# Altium integrated library XC6222B331MR-G.IntLib: 2 symbols
Pins are listed as number, name and electrical type; pins without a type are passive.

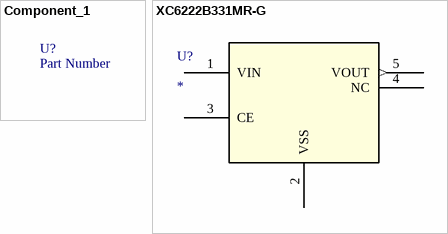
[diagram p0: symbols Component_1 to XC6222B331MR-G]

## Component_1
designator U?, comment Part Number
XXX - Description - Package; GRAMS Lib Spec: 2.7

## XC6222B331MR-G
designator U?
No Description Available; Mfr_Name: Torex Semiconductor; RefDes: RefDes; Type: Type
footprint SOT-25_TOR
pins: 1 VIN (power), 2 VSS (power), 3 CE, 4 NC, 5 VOUT (out)